# Altium schematic symbol library RCM05_SAM3.Schlib: 1 symbol
Pins are listed as number, name and electrical type; pins without a type are passive.

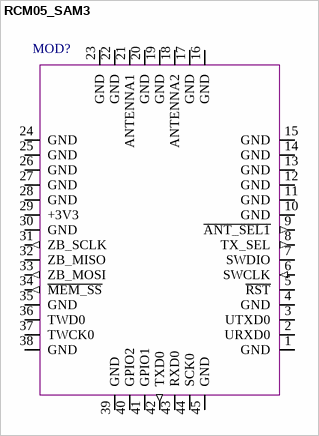
[diagram p0: symbol RCM05_SAM3]

## RCM05_SAM3
designator MOD?  (value not drawn)
IEEE 802.15.4 compliant RF module -40 to +85 degC
pins: 1 GND (power), 2 URXD0, 3 UTXD0, 4 GND (power), 5 ~{RST}, 6 SWCLK (in), 7 SWDIO, 8 TX_SEL (out), 9 ~{ANT_SEL1} (out), 10 GND (power), 11 GND (power), 12 GND (power), 13 GND (power), 14 GND (power), 15 GND (power), 16 GND (power), 17 GND (power), 18 ANTENNA2, 19 GND (power), 20 GND (power), 21 ANTENNA1, 22 GND (power), 23 GND (power), 24 GND (power), 25 GND (power), 26 GND (power), 27 GND (power), 28 GND (power), 29 +3V3 (power), 30 GND (power), 31 ZB_SCLK (out), 32 ZB_MISO, 33 ZB_MOSI (out), 34 ~{MEM_SS} (out), 35 GND (power), 36 TWD0 (oc), 37 TWCK0 (oc), 38 GND (power), 39 GND (power), 40 GPIO2 (io), 41 GPIO1 (io), 42 TXD0 (out), 43 RXD0, 44 SCK0, 45 GND (power)